# EAGLE library part MCP6S28 (library balmer)
Single-Ended, Rail-to-Rail I/O, Low Gain PGA
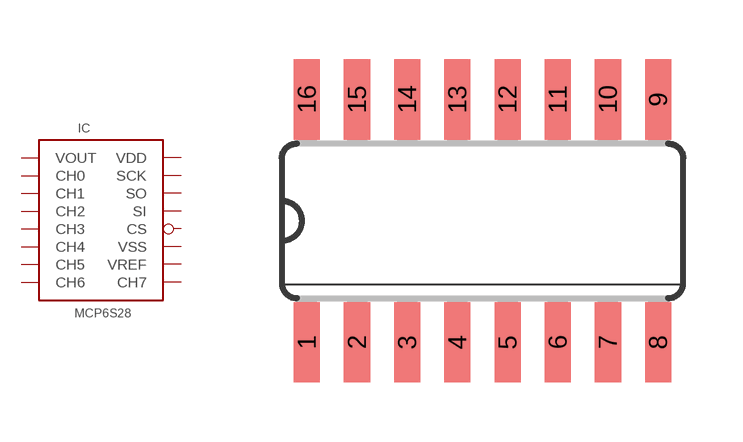
[diagram p15: symbol with the pads of SO16; footprint SO16]

Designator prefix IC

## MCP6S28  [SO16]
1  VOUT
2  CH0
3  CH1
4  CH2
5  CH3
6  CH4
7  CH5
8  CH6
9  CH7
10  VREF
11  VSS
12  CS
13  SI
14  SO
15  SCK
16  VDD

## Footprint SO16 (pad centres in mm)
Small Outline package 150 mil
smd 0.66 x 2.032: 1 -4.445,-3.073; 2 -3.175,-3.073; 3 -1.905,-3.073; 4 -0.635,-3.073; 5 0.635,-3.073; 6 1.905,-3.073; 7 3.175,-3.073; 8 4.445,-3.073; 9 4.445,3.073; 10 3.175,3.073; 11 1.905,3.073; 12 0.635,3.073; 13 -0.635,3.073; 14 -1.905,3.073; 15 -3.175,3.073; 16 -4.445,3.073